# Altium schematic symbol library 74AHC.SchLib: 1 symbol
Pins are listed as number, name and electrical type; pins without a type are passive.

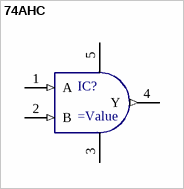
[diagram p0: symbol 74AHC]

## 74AHC
designator IC?
=Description
pins: 1 A (in), 2 B (in), 3 GND (power), 4 Y (out), 5 VCC (power)